# EAGLE library part XMEGA384C3 (library 029000100  -  gKEagleLibrary)
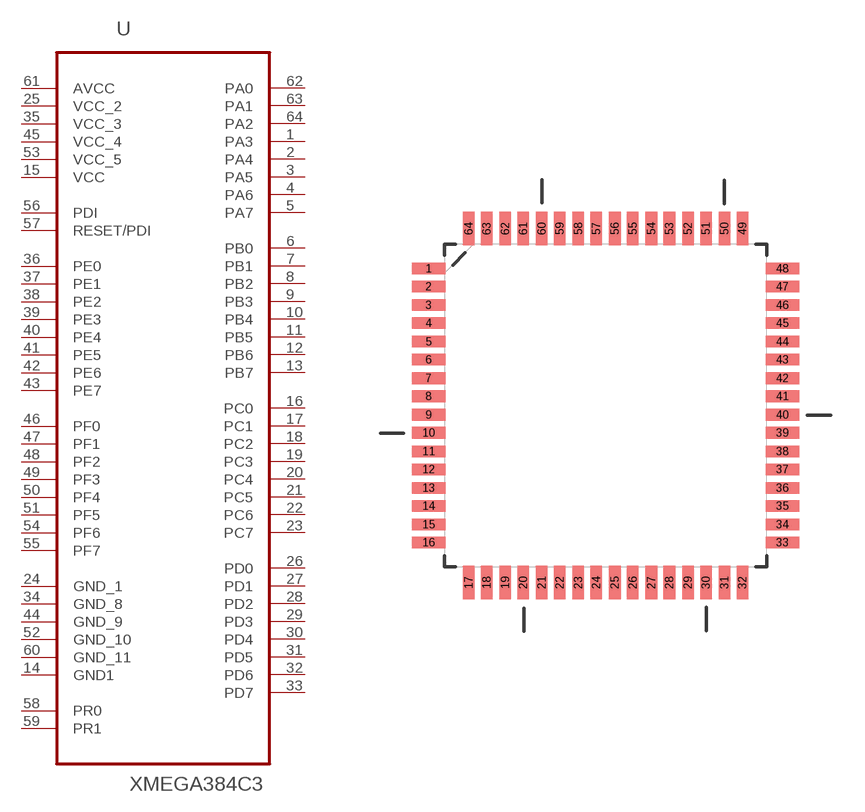
[diagram p39: symbol with the pads of QFP80P1600X1600X120-64N; footprint QFP80P1600X1600X120-64N]

Designator prefix -

## XMEGA384C3  [QFP80P1600X1600X120-64N]
1  PA3
2  PA4
3  PA5
4  PA6
5  PA7
6  PB0
7  PB1
8  PB2
9  PB3
10  PB4
11  PB5
12  PB6
13  PB7
14  GND1  pas
15  VCC  pwr
16  PC0
17  PC1
18  PC2
19  PC3
20  PC4
21  PC5
22  PC6
23  PC7
24  GND_1  pas
25  VCC_2  pwr
26  PD0
27  PD1
28  PD2
29  PD3
30  PD4
31  PD5
32  PD6
33  PD7
34  GND_8  pas
35  VCC_3  pwr
36  PE0
37  PE1
38  PE2
39  PE3
40  PE4
41  PE5
42  PE6
43  PE7
44  GND_9  pas
45  VCC_4  pwr
46  PF0
47  PF1
48  PF2
49  PF3
50  PF4
51  PF5
52  GND_10  pas
53  VCC_5  pwr
54  PF6
55  PF7
56  PDI  in
57  RESET/PDI  in
58  PR0  in
59  PR1  in
60  GND_11  pas
61  AVCC  pwr
62  PA0
63  PA1
64  PA2

## Footprint QFP80P1600X1600X120-64N (pad centres in mm)
smd 1.473 x 0.508: 1 -7.747,5.994; 2 -7.747,5.207; 3 -7.747,4.394; 4 -7.747,3.607; 5 -7.747,2.794; 6 -7.747,2.007; 7 -7.747,1.194; 8 -7.747,0.406; 9 -7.747,-0.406; 10 -7.747,-1.194; 11 -7.747,-2.007; 12 -7.747,-2.794; 13 -7.747,-3.607; 14 -7.747,-4.394; 15 -7.747,-5.207; 16 -7.747,-5.994; 33 7.747,-5.994; 34 7.747,-5.207; 35 7.747,-4.394; 36 7.747,-3.607; 37 7.747,-2.794; 38 7.747,-2.007; 39 7.747,-1.194; 40 7.747,-0.406; 41 7.747,0.406; 42 7.747,1.194; 43 7.747,2.007; 44 7.747,2.794; 45 7.747,3.607; 46 7.747,4.394; 47 7.747,5.207; 48 7.747,5.994
smd 0.508 x 1.473: 17 -5.994,-7.747; 18 -5.207,-7.747; 19 -4.394,-7.747; 20 -3.607,-7.747; 21 -2.794,-7.747; 22 -2.007,-7.747; 23 -1.194,-7.747; 24 -0.406,-7.747; 25 0.406,-7.747; 26 1.194,-7.747; 27 2.007,-7.747; 28 2.794,-7.747; 29 3.607,-7.747; 30 4.394,-7.747; 31 5.207,-7.747; 32 5.994,-7.747; 49 5.994,7.747; 50 5.207,7.747; 51 4.394,7.747; 52 3.607,7.747; 53 2.794,7.747; 54 2.007,7.747; 55 1.194,7.747; 56 0.406,7.747; 57 -0.406,7.747; 58 -1.194,7.747; 59 -2.007,7.747; 60 -2.794,7.747; 61 -3.607,7.747; 62 -4.394,7.747; 63 -5.207,7.747; 64 -5.994,7.747